# EAGLE library part AS-ITM-00336 (library tinycircuits)
ARM SAM D21E Microcontroller IC 32-Bit 48MHz 256KB FLASH 32-QFN (5x5)
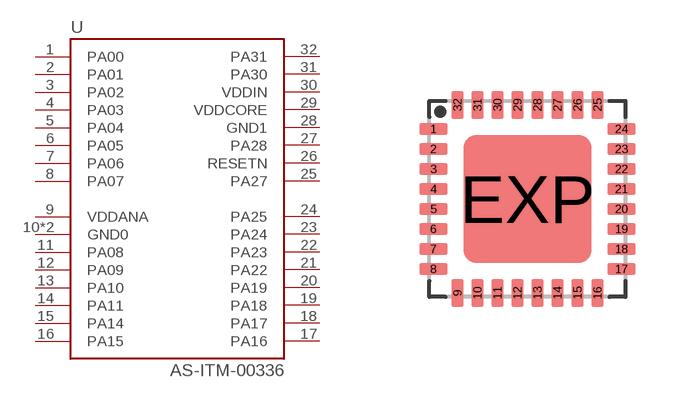
[diagram p132: symbol with the pads of ATMEL_QFN32; footprint ATMEL_QFN32]

Designator prefix U

## AS-ITM-00336 (PARTNO: AS-ITM-00336; VALUE: ATSAMD21E18A-MU)  [ATMEL_QFN32]
1  PA00
2  PA01
3  PA02
4  PA03
5  PA04
6  PA05
7  PA06
8  PA07
9  VDDANA
10  GND0
11  PA08
12  PA09
13  PA10
14  PA11
15  PA14
16  PA15
17  PA16
18  PA17
19  PA18
20  PA19
21  PA22
22  PA23
23  PA24
24  PA25
25  PA27
26  RESETN
27  PA28
28  GND1
29  VDDCORE
30  VDDIN
31  PA30
32  PA31
EXP  GND0

## Footprint ATMEL_QFN32 (pad centres in mm)
QFN 32 5 x 5 mm Source: http://datasheets.maxim-ic.com/en/ds/MAX7042.pdf
smd 0.711 x 0.305: 1 -2.351,1.75; 2 -2.351,1.25; 3 -2.351,0.75; 4 -2.351,0.25; 5 -2.351,-0.25; 6 -2.351,-0.75; 7 -2.351,-1.25; 8 -2.351,-1.75; 17 2.351,-1.75; 18 2.351,-1.25; 19 2.351,-0.75; 20 2.351,-0.25; 21 2.351,0.25; 22 2.351,0.75; 23 2.351,1.25; 24 2.351,1.75
smd 0.305 x 0.711: 9 -1.75,-2.351; 10 -1.25,-2.351; 11 -0.75,-2.351; 12 -0.25,-2.351; 13 0.25,-2.351; 14 0.75,-2.351; 15 1.25,-2.351; 16 1.75,-2.351; 25 1.75,2.351; 26 1.25,2.351; 27 0.75,2.351; 28 0.25,2.351; 29 -0.25,2.351; 30 -0.75,2.351; 31 -1.25,2.351; 32 -1.75,2.351
smd 3.2 x 3.2: EXP 0,0